# Altium schematic symbol library PROJE.SchLib: 26 symbols
Pins are listed as number, name and electrical type; pins without a type are passive.

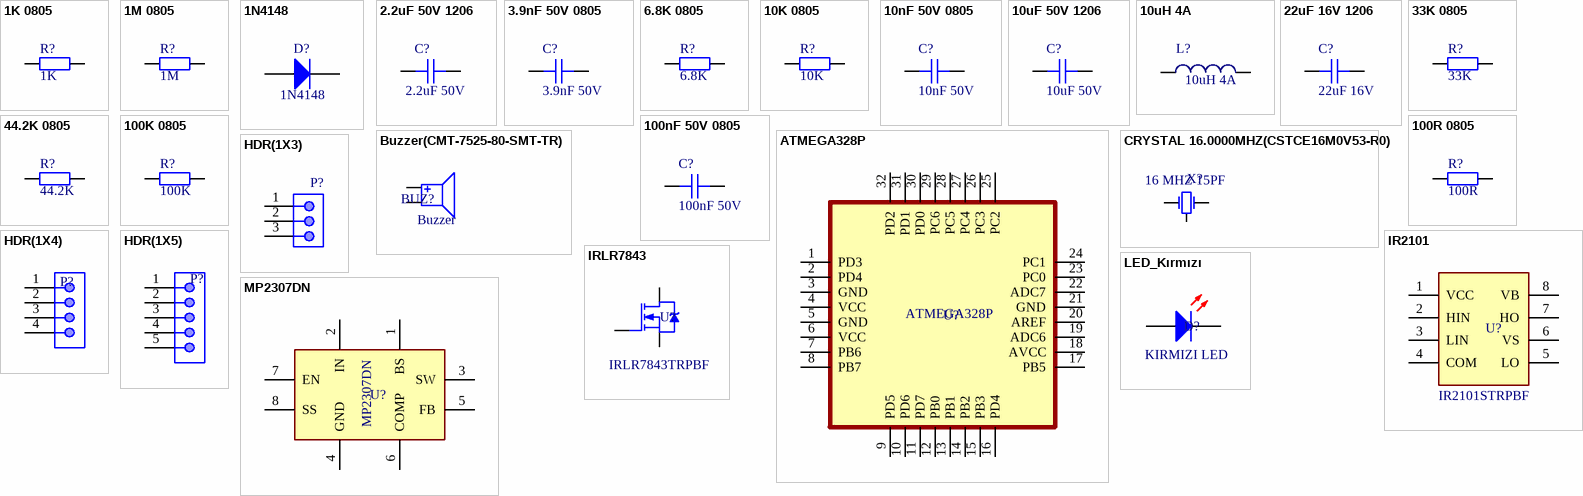
[diagram p0: symbols 1K 0805 to MP2307DN]

## 1K 0805
designator R?, comment Deger: 1K  (hidden comment: RES SMD 1K OHM 1% 1/8W 0805)
1 kOhms ±1% 0.125W, 1/8W Chip Resistor 0805 (2012 Metric) Moisture Resistant Thick Film; Cins: Direnc; Uretici Kodu: RC0805FR-071KL; Kılıf: 0805; -Sicaklik: -55; +Sicaklik: +155; Lehim Yöntemi: SMD; MSL: 1 (Unlimited)
footprint RES_0805
pins: 1, 2

## 1M 0805
designator R?, comment Deger: 1M  (hidden comment: RES SMD 1M OHM 1% 1/8W 0805)
1 MOhms ±1% 0.125W, 1/8W Chip Resistor 0805 (2012 Metric) Moisture Resistant Thick Film; Cins: Direnc; Uretici Kodu: RC0805FR-071ML; Kılıf: 0805; -Sicaklik: -55; +Sicaklik: +155; Lehim Yöntemi: SMD; MSL: 1 (Unlimited)
footprint RES_0805
pins: 1, 2

## 1N4148
designator D?, comment Deger: 1N4148  (hidden comment: 1N4148 Diyot)
DIODE GEN PURP 100V 150MA SOD123; Uretici Kodu: 1N4148W-TP; -Sicaklik: -65; +Sicaklik: +150; Lehim Yöntemi: SMD; Cins: Diyot; Kılıf: SOD123; MSL: 1 (Unlimited)
footprint SOD-123 (SOD, 2-Leads, Body 1.55x3.70mm, IPC Medium Density)
pins: 1 A, 2 K

## 2.2uF 50V 1206
designator C?, comment Deger: 2.2uF 50V  (hidden comment: CAP CER 2.2UF 50V X5R 1206)
2.2µF ±10% 50V Ceramic Capacitor X5R 1206 (3216 Metric); Cins: Kondansator; Uretici Kodu: CL31A225KBHNNNE; Kılıf: 1206; -Sicaklik: -55; +Sicaklik: +85; Lehim Yöntemi: SMD; MSL: 1 (Unlimited)
footprint CAP 1206/3216 (Chip Capacitor, 2-Leads, Body 3.25x1.60mm, IPC Medium Density)
pins: 1, 2

## 3.9nF 50V 0805
designator C?, comment Deger: 3.9nF 50V  (hidden comment: CAP CER 3900PF 50V X7R 0805)
3900pF ±10% 50V Ceramic Capacitor X7R 0805 (2012 Metric); Cins: Kondansator; Uretici Kodu: CL21B392KBANNNC; Kılıf: 0805; -Sicaklik: -55; +Sicaklik: +125; Lehim Yöntemi: SMD; MSL: 1 (Unlimited)
footprint CAP 0805/2012 (Chip Capacitor, 2-Leads, Body 2.00x1.20mm, IPC Medium Density)
pins: 1, 2

## 6.8K 0805
designator R?, comment Deger: 6.8K  (hidden comment: RES SMD 6.8K OHM 1% 1/8W 0805)
6.8 kOhms ±1% 0.125W, 1/8W Chip Resistor 0805 (2012 Metric) Moisture Resistant Thick Film; Cins: Direnc; Kılıf: 0805; Uretici Kodu: RC0805FR-076K8L; -Sicaklik: -55; +Sicaklik: +155; Lehim Yöntemi: SMD; MSL: 1 (Unlimited)
footprint RES_0805
pins: 1, 2

## 10K 0805
designator R?, comment Deger: 10K  (hidden comment: RES SMD 10K OHM 1% 1/8W 0805)
10 kOhms ±1% 0.125W, 1/8W Chip Resistor 0805 (2012 Metric) Moisture Resistant Thick Film; Cins: Direnc; Kılıf: 0805; Uretici Kodu: RC0805FR-0710KL; -Sicaklik: -55; +Sicaklik: +155; Lehim Yöntemi: SMD; MSL: 1 (Unlimited)
footprint RES_0805
pins: 1, 2

## 10nF 50V 0805
designator C?, comment Deger: 10nF 50V  (hidden comment: CAP CER 10000PF 50V X7R 0805)
10000pF ±10% 50V Ceramic Capacitor X7R 0805 (2012 Metric); Cins: Kondansator; Uretici Kodu: CL21B103KBANNNC; Kılıf: 0805; -Sicaklik: -55; +Sicaklik: +125; Lehim Yöntemi: SMD; MSL: 1 (Unlimited)
footprint CAP 0805/2012 (Chip Capacitor, 2-Leads, Body 2.00x1.20mm, IPC Medium Density)
pins: 1, 2

## 10uF 50V 1206
designator C?, comment Deger: 10uF 50V  (hidden comment: CAP CER 10UF 50V X5R 1206)
10µF ±10% 50V Ceramic Capacitor X5R 1206 (3216 Metric); Cins: Kondansator; Uretici Kodu: CL31A106KBHNNNE; Kılıf: 1206; -Sicaklik: -55; +Sicaklik: +125; Lehim Yöntemi: SMD; MSL: 1 (Unlimited)
footprint CAP 1206/3216 (Chip Capacitor, 2-Leads, Body 3.25x1.60mm, IPC Medium Density)
pins: 1, 2

## 10uH 4A
designator L?, comment Deger: 10uH 4A  (hidden comment: FIXED IND 10UH 4A 68 MOHM SMD)
10µH Shielded Molded Inductor 4A 68mOhm Max Nonstandard; Cins: Bobin; Uretici Kodu: ASPI-0630LR-100M-T15; -Sicaklik: -55; +Sicaklik: +125; Kılıf: Nonstandard; Lehim Yöntemi: SMD; MSL: 1 (Unlimited)
footprint ASPI-0630LR-100M-T15
pins: 1, 2

## 22uF 16V 1206
designator C?, comment Deger: 22uF 16V  (hidden comment: CAP CERAMIC 22UF 16V X7S 20% PAD)
22µF ±20% 16V Ceramic Capacitor X7S 1206 (3216 Metric); Cins: Kondansator; Uretici Kodu: GRM31CC71C226ME11L; Kılıf: 1206; -Sicaklik: -55; +Sicaklik: +125; Lehim Yöntemi: SMD; MSL: 1 (Unlimited)
footprint CAP 1206/3216 (Chip Capacitor, 2-Leads, Body 3.25x1.60mm, IPC Medium Density)
pins: 1, 2

## 33K 0805
designator R?, comment Deger: 33K  (hidden comment: RES SMD 33K OHM 1% 1/8W 0805)
33 kOhms ±1% 0.125W, 1/8W Chip Resistor 0805 (2012 Metric) Moisture Resistant Thick Film; Cins: Direnc; Kılıf: 0805; -Sicaklik: -55; +Sicaklik: +155; Uretici Kodu: RC0805FR-0733KL; MSL: 1 (Unlimited); Lehim Yöntemi: SMD
footprint RES_0805
pins: 1, 2

## 44.2K 0805
designator R?, comment Deger: 44.2K  (hidden comment: RES SMD 44.2K OHM 1% 1/8W 0805)
44.2 kOhms ±1% 0.125W, 1/8W Chip Resistor 0805 (2012 Metric) Moisture Resistant Thick Film; Cins: Direnc; Uretici Kodu: RC0805FR-0744K2L; Kılıf: 0805; -Sicaklik: -55; +Sicaklik: +155; Lehim Yöntemi: SMD; MSL: 1 (Unlimited)
footprint RES_0805
pins: 1, 2

## 100K 0805
designator R?, comment Deger: 100K  (hidden comment: RES SMD 100K OHM 1% 1/8W 0805)
100 kOhms ±1% 0.125W, 1/8W Chip Resistor 0805 (2012 Metric) Moisture Resistant Thick Film; Cins: Direnc; Uretici Kodu: RC0805FR-07100KL; Kılıf: 0805; -Sicaklik: -55; +Sicaklik: +155; Lehim Yöntemi: SMD; MSL: 1 (Unlimited)
footprint RES_0805
pins: 1, 2

## 100nF 50V 0805
designator C?, comment Deger: 100nF 50V  (hidden comment: CAP CER 0.1UF 50V X7R 0805)
0.1µF ±10% 50V Ceramic Capacitor X7R 0805 (2012 Metric); Kılıf: 0805; Cins: Kondansator; Uretici Kodu: CL21B104KBCNNNC; -Sicaklik: -55; +Sicaklik: +125; Lehim Yöntemi: SMD; MSL: 1 (Unlimited)
footprint CAP 0805/2012 (Chip Capacitor, 2-Leads, Body 2.00x1.20mm, IPC Medium Density)
pins: 1, 2

## 100R 0805
designator R?, comment Deger: 100R  (hidden comment: RES SMD 100 OHM 1% 1/8W 0805)
100 Ohms ±1% 0.125W, 1/8W Chip Resistor 0805 (2012 Metric) Moisture Resistant Thick Film; Cins: Direnc; Uretici Kodu: RC0805FR-07100RL; Kılıf: 0805; -Sicaklik: -55; +Sicaklik: +155; Lehim Yöntemi: SMD; MSL: 1 (Unlimited)
footprint RES_0805
pins: 1, 2

## ATMEGA328P
designator U?, comment Deger: ATMEGA328P  (hidden comment: IC MCU 8BIT 32KB FLASH 32TQFP)
AVR AVR® ATmega Microcontroller IC 8-Bit 20MHz 32KB (16K x 16) FLASH 32-TQFP (7x7); Uretici Kodu: RC0805FR-07100RL; -Sicaklik: -40; +Sicaklik: +85; Lehim Yöntemi: SMD; Cins: IC; Kılıf: 32-TQFP; MSL: 3 (168 Hours)
footprint TQFP32 (TQFP, 32-Leads, Body 7,00x7,00mm, Pitch 0,80mm, IPC Medium Density)
pins: 1 PD3, 2 PD4, 3 GND, 4 VCC, 5 GND, 6 VCC, 7 PB6, 8 PB7, 9 PD5, 10 PD6, 11 PD7, 12 PB0, 13 PB1, 14 PB2, 15 PB3, 16 PD4, 17 PB5, 18 AVCC, 19 ADC6, 20 AREF, 21 GND, 22 ADC7, 23 PC0, 24 PC1, 25 PC2, 26 PC3, 27 PC4, 28 PC5, 29 PC6, 30 PD0, 31 PD1, 32 PD2

## Buzzer(CMT-7525-80-SMT-TR)
designator BUZ?, comment Deger: Buzzer  (hidden comment: BUZZER MAGN 3.6V 7.5X7.5MM SMD)
Buzzers Transducer, Externally Driven Magnetic 3.6V 100mA 2.73kHz 80dB @ 3.6V, 10cm Surface Mount Solder Pads; Uretici Kodu: CMT-7525-80-SMT-TR; Kılıf: Nonstandard; -Sicaklik: -40; +Sicaklik: +85; Cins: Buzzer; MSL: 1 (Unlimited); Lehim Yöntemi: SMD
footprint BUZ: CMT-7525
pins: 1 Positive, 2 Negative

## CRYSTAL 16.0000MHZ(CSTCE16M0V53-R0)
designator X?, comment Deger: 16 MHZ 15PF  (hidden comment: CERAMIC RES 16.0000MHZ 15PF SMD)
16MHz Ceramic Resonator Built in Capacitor 15pF ±0.3%  -20°C ~ 80°C Surface Mount; Cins: Kristal; Uretici Kodu: CSTCE16M0V53-R0; Kılıf: 3-SMD; -Sicaklik: -20; +Sicaklik: +80; Lehim Yöntemi: SMD; MSL: 1 (Unlimited)
footprint CRYSTAL_16MHZ(CTSE16)
pins: 1 OSC1, 2 GND, 3 OSC2

## HDR(1X3)
designator P?, comment WR-PHD 2.54 mm Angled Socket Header  (value not drawn)
Cins: Konnektor; Uretici Kodu: 613003143121; Kılıf: 3POS 2.54MM; -Sicaklik: -40; +Sicaklik: +105; Lehim Yöntemi: MANUEL; MSL: 1 (Unlimited)
footprint PWM_CONN
pins: 1, 2, 3

## HDR(1X4)
designator P?, comment WR-PHD 2.54 mm Angled Socket Header  (value not drawn)
Cins: Konnektor; Uretici Kodu: 613004143121; Kılıf: 4POS 2.54MM; -Sicaklik: -40; +Sicaklik: +105; Lehim Yöntemi: MANUEL; MSL: 1 (Unlimited)
footprint TTL_CONN
pins: 1, 2, 3, 4

## HDR(1X5)
designator P?, comment WR-PHD 2.54 mm Angled Socket Header  (value not drawn)
Cins: Konnektor; Uretici Kodu: 613005143121; Kılıf: 5POS 2.54MM; -Sicaklik: -40; +Sicaklik: +105; Lehim Yöntemi: MANUEL; MSL: 1 (Unlimited)
footprint TTL_CONN_5
pins: 1, 2, 3, 4, 5

## IR2101
designator U?, comment Deger: IR2101STRPBF  (hidden comment: IC GATE DRVR HALF-BRIDGE 8SOIC)
Half-Bridge Gate Driver IC Non-Inverting 8-SOIC; -Sicaklik: -40; +Sicaklik: +150; Lehim Yöntemi: SMD; Cins: IC; Uretici Kodu: IR2101STRPBF; Kılıf: 8-SOIC; MSL: 2A (4 Weeks)
footprint SOIC8 (SOIC, 8-Leads, Body 4,90x3,90mm, Pitch 1,27mm, Thermal Pad 3,45x2,56mm, IPC Low Density)
pins: 1 VCC, 2 HIN, 3 LIN, 4 COM, 5 LO, 6 VS, 7 HO, 8 VB

## IRLR7843
designator U?, comment Deger: IRLR7843TRPBF  (hidden comment: MOSFET N-CH 30V 161A DPAK)
N-Channel 30V 161A (Tc) 140W (Tc) Surface Mount D-Pak; Kılıf: DPAK(TO-252-3); -Sicaklik: -55; +Sicaklik: +175; Lehim Yöntemi: SMD; Cins: MOSFET; Uretici Kodu: IRLR7843TRPBF; MSL: 1 (Unlimited)
footprint DPAK (D-PAK, 3-Pads, Body 6,47x6,54mm (max), IPC Medium Density)
pins: 1 G, 3 S, 4 D

## LED_Kırmızı
designator D?, comment Deger: KIRMIZI LED  (hidden comment: Red 645nm LED Indication - Discrete 1.8V 0805)
LED RED DIFFUSED 0805 SMD; Uretici Kodu: LH R974-LP-1; Kılıf: 0805; -Sicaklik: -40; +Sicaklik: +125; Cins: LED; Lehim Yöntemi: SMD; MSL: 1 (Unlimited)
footprint SMD: LED 0805/2012 RED (Chip Diode, 2-Leads, Body 2.00x1.25mm, IPC Medium Density)
pins: 1 A, 2 K

## MP2307DN
designator U?, comment Deger: MP2307DN  (hidden comment: IC REG BUCK ADJUSTABLE 3A 8SOIC)
Buck Switching Regulator IC Positive Adjustable 0.925V 1 Output 3A 8-SOIC (0.154", 3.90mm Width) Exposed Pad; Uretici Kodu: MP2307DN-LF-Z; -Sicaklik: -40; +Sicaklik: +85; Lehim Yöntemi: SMD; Cins: IC; Kılıf: 8-SOIC; MSL: 2A (4 Weeks)
footprint SOIC8_PAD (SOIC, 8-Leads, Body 4,90x3,90mm, Pitch 1,27mm, Thermal Pad 3,45x2,56mm, IPC Low Density)
pins: 1 BS, 2 IN, 3 SW, 4 GND, 5 FB, 6 COMP, 7 EN, 8 SS